# EAGLE library part PIC16F1704-I (library microchip)
MICROCONTROLLER
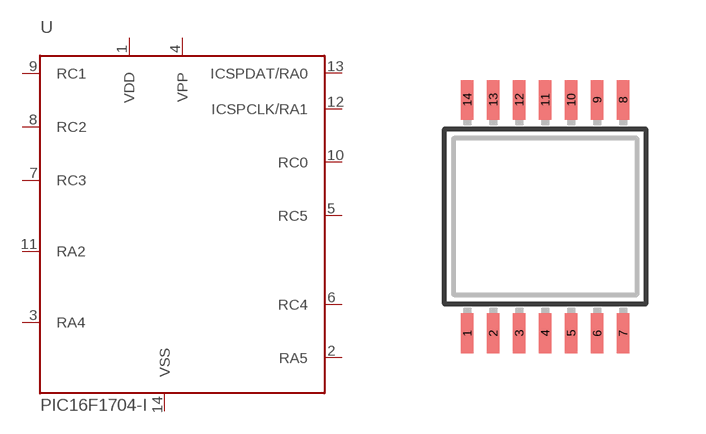
[diagram p1: symbol with the pads of TSSOP14; footprint TSSOP14]

Designator prefix U

## PIC16F1704-I/ST (DIGIKEY: PIC16F1704-I/ST-ND)  [TSSOP14]
1  VDD
2  RA5
3  RA4
4  VPP
5  RC5
6  RC4
7  RC3
8  RC2
9  RC1
10  RC0
11  RA2
12  ICSPCLK/RA1
13  ICSPDAT/RA0
14  VSS

## Footprint TSSOP14 (pad centres in mm)
Thin Shrink Small Outline Plastic 14
smd 0.305 x 0.991: 1 -1.95,-2.918; 2 -1.3,-2.918; 3 -0.65,-2.918; 4 0,-2.918; 5 0.65,-2.918; 6 1.3,-2.918; 7 1.95,-2.918; 8 1.95,2.918; 9 1.3,2.918; 10 0.65,2.918; 11 0,2.918; 12 -0.65,2.918; 13 -1.3,2.918; 14 -1.95,2.918